# EAGLE library part SC56-11SRWA (library OPTO)
7 Segment LED Display, Mechanically Rugged, Red, 20 mA, 1.95 V, 97 mcd, 1, 14.2 mm
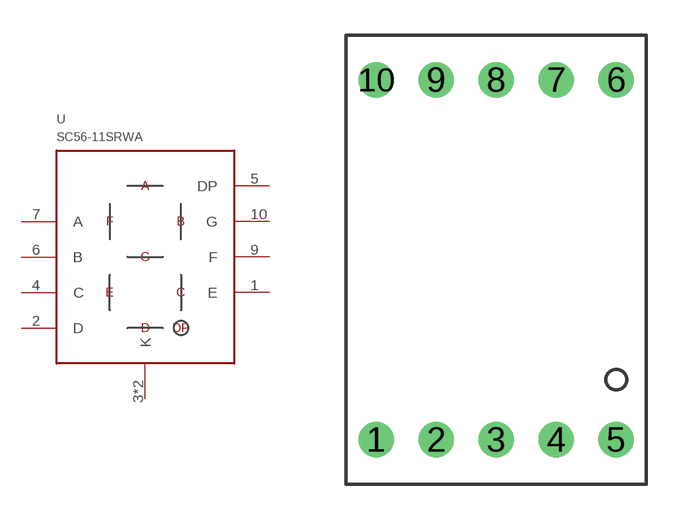
[diagram p4: symbol with the pads of SC56-11SURKWA; footprint SC56-11SURKWA]

Designator prefix U

## SC56-11SRWA (DIGIKEY: 754-1467-5-ND; HEIGHT: 8; PRICE_PER: 1.29; VALUE: 7 SEG)  [SC56-11SURKWA]
1  E
2  D
3  K
4  C
5  DP
6  B
7  A
8  K
9  F
10  G

## Footprint SC56-11SURKWA (pad centres in mm)
drill 1: 1 -5.08,-7.62; 2 -2.54,-7.62; 3 0,-7.62; 4 2.54,-7.62; 5 5.08,-7.62; 6 5.08,7.62; 7 2.54,7.62; 8 0,7.62; 9 -2.54,7.62; 10 -5.08,7.62